# Altium schematic symbol library MCP1501_SOIC.SchLib: 1 symbol
Pins are listed as number, name and electrical type; pins without a type are passive.

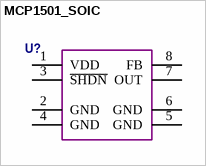
[diagram p0: symbol MCP1501_SOIC]

## MCP1501_SOIC
designator U?  (value not drawn)
2,5V Voltage References Precision, Buffered Voltage Reference
pins: 1 VDD, 2 GND, 3 ~{SHDN}, 4 GND, 5 GND, 6 GND, 7 OUT, 8 FB